# Altium footprint library ICL.PcbLib: 1 footprints
Each footprint in its own frame and in the unit in brackets; x right, y up, seen from the top. Pads: shape width x height; smd on the part's side, far side on the other; paste and mask are expansions set on the pad; w line width, h text height; cw(c..) or ccw(c..) is an arc to the next point about the centre after c.
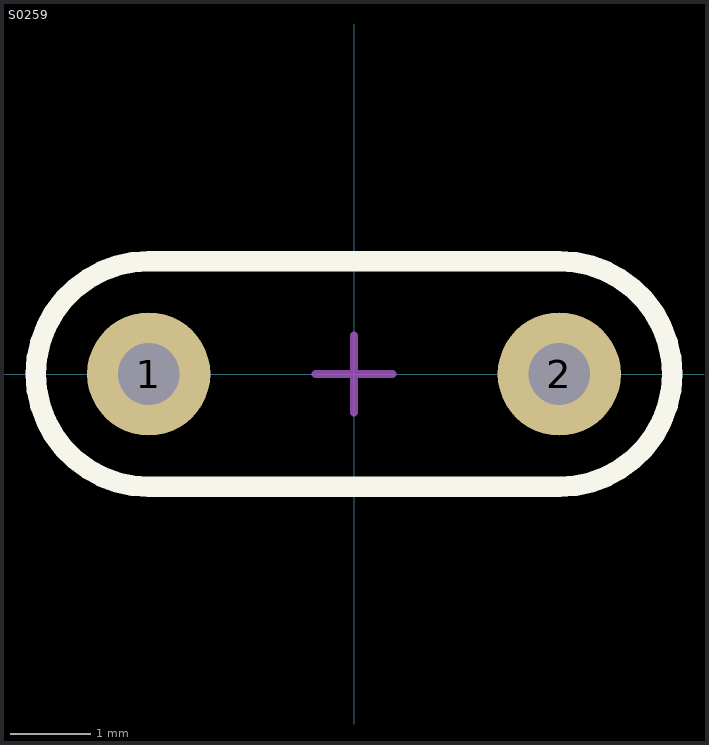
[diagram p0: the footprint, top view; thin cyan lines are the x and y axes]

## S0259 [mil]
pads (2):
  round 60 hole 30: 1(-100,0) 2(100,0)
Top Overlay:
  lines w10: -100,-55 cw(c-100,0) -100,55 100,55 cw(c100,0) 100,-55 -100,-55
Top Courtyard:
  lines w3.94: -18.7,0 18.7,0 ; 0,-18.7 0,18.7
Top Designator:
  text ".Designator" at -236.14,-15.74 h47.24
3D body "s235.step": height 687.01, standoff -848.43, extent -187.01,-118.11 187.01,117.97